# EAGLE library part ASTAR_32U4 (library DWM)
FEMALE HEADER
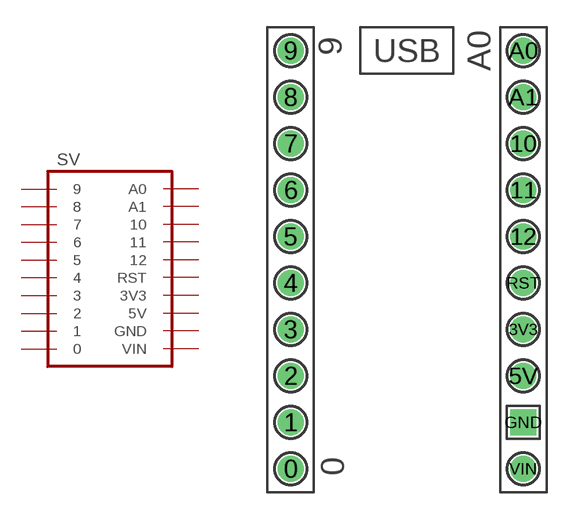
[diagram p4: symbol with the pads of ASTAR_32U4; footprint ASTAR_32U4]

Designator prefix SV

## ASTAR_32U4 (OC_FARNELL: unknown; OC_NEWARK: unknown)  [ASTAR_32U4]
0  0  pas
1  1  pas
2  2  pas
3  3  pas
3V3  3V3  pas
4  4  pas
5  5  pas
5V  5V  pas
6  6  pas
7  7  pas
8  8  pas
9  9  pas
10  10  pas
11  11  pas
12  12  pas
A0  A0  pas
A1  A1  pas
GND  GND  pas
RST  RST  pas
VIN  VIN  pas

## Footprint ASTAR_32U4 (pad centres in mm)
FEMALE HEADER
drill 0.914: 0 -6.35,-11.43; 1 -6.35,-8.89; 2 -6.35,-6.35; 3 -6.35,-3.81; 3V3 6.35,-3.81; 4 -6.35,-1.27; 5 -6.35,1.27; 5V 6.35,-6.35; 6 -6.35,3.81; 7 -6.35,6.35; 8 -6.35,8.89; 9 -6.35,11.43; 10 6.35,6.35; 11 6.35,3.81; 12 6.35,1.27; A0 6.35,11.43; A1 6.35,8.89; RST 6.35,-1.27; VIN 6.35,-11.43
drill 0.914 square: GND 6.35,-8.89